# Altium footprint library PowerFlat_5x6.PcbLib: 1 footprints
Each footprint in its own frame and in the unit in brackets; x right, y up, seen from the top. Pads: shape width x height; smd on the part's side, far side on the other; paste and mask are expansions set on the pad; w line width, h text height; cw(c..) or ccw(c..) is an arc to the next point about the centre after c.
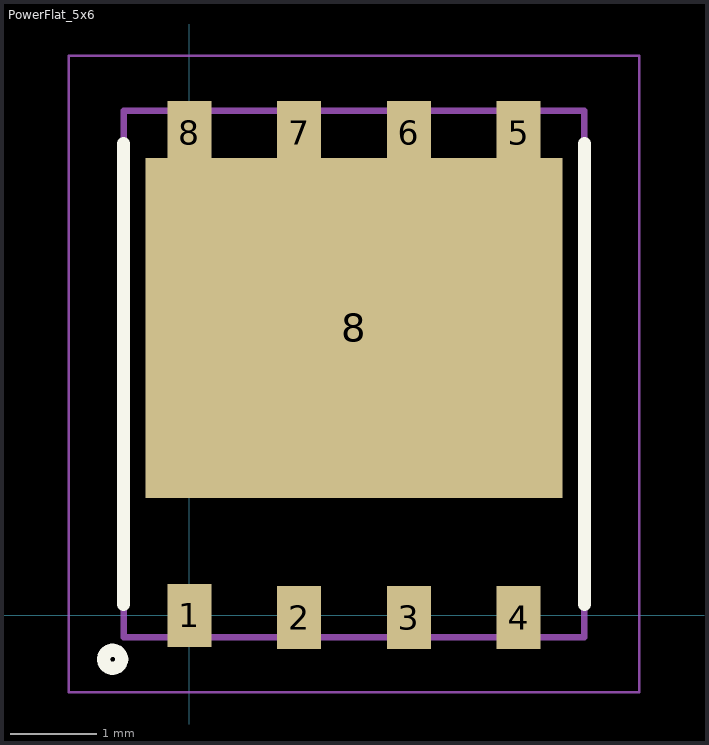
[diagram p0: the footprint, top view; thin cyan lines are the x and y axes]

## PowerFlat_5x6 [mm] "PowerFlat_5x6 HV"
height 1
pads (9):
  rect 0.51x0.73 smd mask+0.076: 1(0,0) 2(1.27,-0.025) 3(2.54,-0.025) 4(3.81,-0.025) 5(3.81,5.588) 6(2.54,5.588) 7(1.27,5.588) 8(0,5.588)
  rect 4.826x3.937 smd mask+0.076: 8(1.905,3.327)
Top Overlay:
  circle w0.152: c-0.889,-0.508 r0.105
  lines w0.152: -0.762,0.127 -0.762,5.461 ; 4.572,0.127 4.572,5.461
Mechanical 3:
  lines w0.076: -0.762,-0.254 -0.762,5.842 4.572,5.842 4.572,-0.254 -0.762,-0.254
Mechanical 7:
  lines w0.025: -1.397,-0.889 -1.397,6.477 5.207,6.477 5.207,-0.889 -1.397,-0.889
3D body "User Library-PowerPAK_SO8_single.STEP": height 1.09, standoff -0.03, extent -0.72,-0.33 4.53,5.91